# EAGLE library part AD8221ARZ (library nanoeeg)
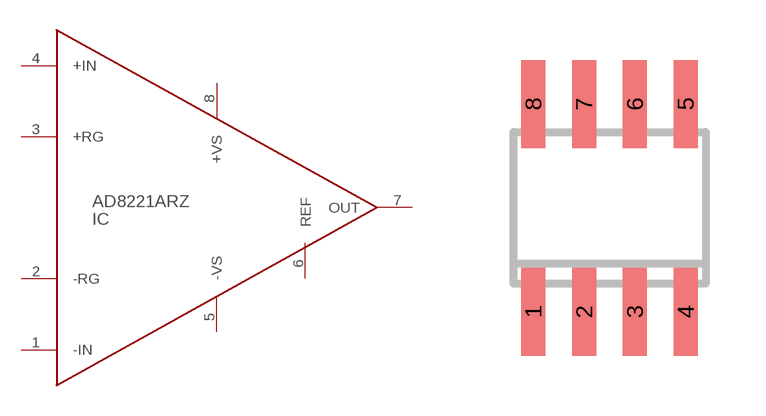
[diagram p0: symbol with the pads of AD8221ARZ; footprint AD8221ARZ]

Designator prefix IC

## AD8221ARZ  [AD8221ARZ]
1  -IN
2  -RG
3  +RG
4  +IN
5  -VS  pwr
6  REF
7  OUT
8  +VS  pwr

## Footprint AD8221ARZ (pad centres in mm)
Small Outline Narrow Plastic Gull Wing 150-mil body, package type SN
smd 0.6 x 2.2: 1 -1.905,-2.6; 2 -0.635,-2.6; 3 0.635,-2.6; 4 1.905,-2.6; 5 1.905,2.6; 6 0.635,2.6; 7 -0.635,2.6; 8 -1.905,2.6